# Altium schematic symbol library L6202.Schlib: 1 symbol
Pins are listed as number, name and electrical type; pins without a type are passive.

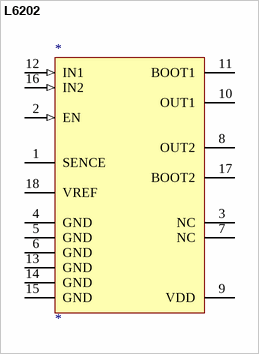
[diagram p0: symbol L6202]

## L6202
designator *
footprint DIP-18
pins: 1 SENCE, 2 EN (in), 3 NC, 4 GND (power), 5 GND (power), 6 GND (power), 7 NC, 8 OUT2, 9 VDD (power), 10 OUT1, 11 BOOT1, 12 IN1 (in), 13 GND (power), 14 GND (power), 15 GND (power), 16 IN2 (in), 17 BOOT2, 18 VREF